# Altium footprint library PCB_Lib.PcbLib: 2 footprints
Each footprint in its own frame and in the unit in brackets; x right, y up, seen from the top. Pads: shape width x height; smd on the part's side, far side on the other; paste and mask are expansions set on the pad; w line width, h text height; cw(c..) or ccw(c..) is an arc to the next point about the centre after c.
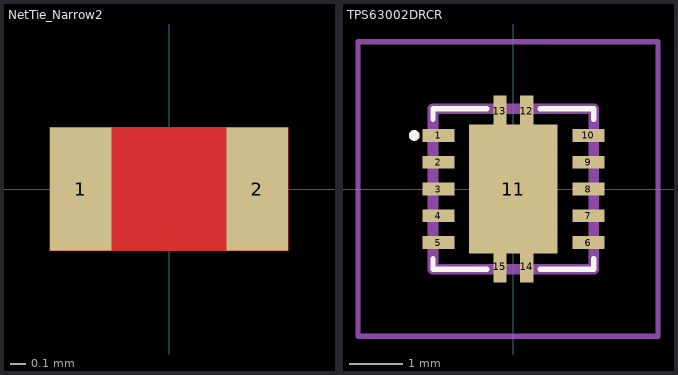
[diagram p0: the footprints below, top view; thin cyan lines are the x and y axes]

## NetTie_Narrow2 [mm]
pads (2):
  rect 0.4x0.8 smd: 1(-0.575,0) 2(0.575,0)
Top Layer:
  region: -0.775,0.4 -0.775,-0.4 0.775,-0.4 0.775,0.4

## TPS63002DRCR [mm]
pads (15):
  rect 0.6x0.24 smd: 1(-1.4,1) 2(-1.4,0.5) 3(-1.4,0) 4(-1.4,-0.5) 5(-1.4,-1) 6(1.4,-1) 7(1.4,-0.5) 8(1.4,0) 9(1.4,0.5) 10(1.4,1)
  rect 1.65x2.4 smd: 11(0,0)
  rect 0.25x0.6 smd: 12(0.25,1.45) 13(-0.25,1.45) 14(0.25,-1.45) 15(-0.25,-1.45)
Top Overlay:
  lines w0.1: -1.5,-1.3 -1.5,-1.5 -0.5,-1.5 ; -1.5,1.3 -1.5,1.5 -0.5,1.5 ; 0.5,-1.5 1.5,-1.5 1.5,-1.3 ; 0.5,1.5 1.5,1.5 1.5,1.3 ; -1.9,1 cw(c-1.85,1) -1.8,1 cw(c-1.85,1) -1.9,1
Mechanical 13:
  lines w0.2: -1.5,-1.5 -1.5,1.5 1.5,1.5 1.5,-1.5 -1.5,-1.5
Mechanical 15:
  lines w0.1: -2.9,-2.75 -2.9,2.75 2.7,2.75 2.7,-2.75 -2.9,-2.75
3D body "TPS63002DRCR.stp": height 1.1, standoff 0, extent -1.5,-1.5 1.5,1.5